# Altium schematic symbol library MOSFET.SchLib: 4 symbols
Pins are listed as number, name and electrical type; pins without a type are passive.

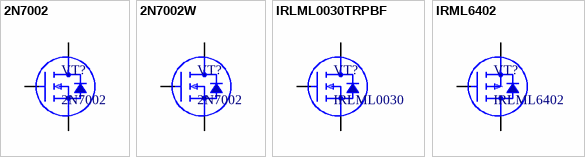
[diagram p0: symbols 2N7002 to IRML6402]

## 2N7002
designator VT?
Value: 2N7002; ComponentDescription: =Comment
footprint SOT95P230X110-3N (SOT23, 3-Leads, Body 2,90x2,30mm, Pitch 0,95mm, IPC Medium Density)
pins: 1 G, 2 S, 3 D

## 2N7002W
designator VT?, comment 2N7002
Value: 2N7002; ComponentDescription: =Comment
footprint SOT323 (SOT-323/SC-70; 3 Leads; Body 2.2 x 2.2 mm, inc. leads (LxW max))
pins: 1 G, 2 S, 3 D

## IRLML0030TRPBF
designator VT?, comment IRLML0030
ComponentDescription: =Comment; Value: IRLML0030
footprint SOT95P230X110-3N (SOT23, 3-Leads, Body 2,90x2,30mm, Pitch 0,95mm, IPC Medium Density)
pins: 1 G, 2 S, 3 D

## IRML6402
designator VT?, comment IRLML6402
ComponentDescription: =Comment; Value: IRLML6402
footprint SOT95P230X110-3N (SOT23, 3-Leads, Body 2,90x2,30mm, Pitch 0,95mm, IPC Medium Density)
pins: 1 G, 2 S, 3 D